# EAGLE library part IRF7509 (library irf7509)
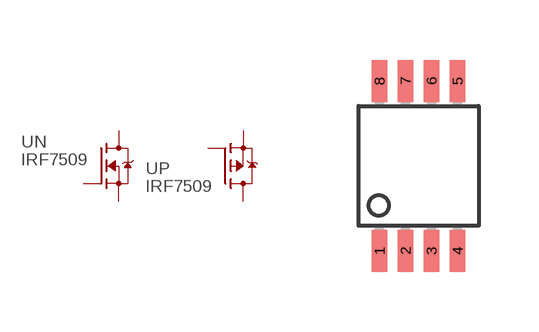
[diagram p0: symbol with the pads of MICRO8; footprint MICRO8]

Designator prefix -; gates N=N-MOSFET P=P-MOSFET

## IRF7509  [MICRO8]
1  N:S  pas
2  N:G  pas
3  P:S  pas
4  P:G  pas
5  P:D  pas
6  P:D  pas
7  N:D  pas
8  N:D  pas

## Footprint MICRO8 (pad centres in mm)
Micro8 CASE 846A-02 Source: http://www.onsemi.com/pub/Collateral/MC34164-D.PDF
smd 0.38 x 1.05: 1 -0.975,-2.125; 2 -0.325,-2.125; 3 0.325,-2.125; 4 0.975,-2.125; 5 0.975,2.125; 6 0.325,2.125; 7 -0.325,2.125; 8 -0.975,2.125